# Altium footprint library V1.PcbLib: 20 footprints (part 1 of 2)
Each footprint in its own frame and in the unit in brackets; x right, y up, seen from the top. Pads: shape width x height; smd on the part's side, far side on the other; paste and mask are expansions set on the pad; w line width, h text height; cw(c..) or ccw(c..) is an arc to the next point about the centre after c.
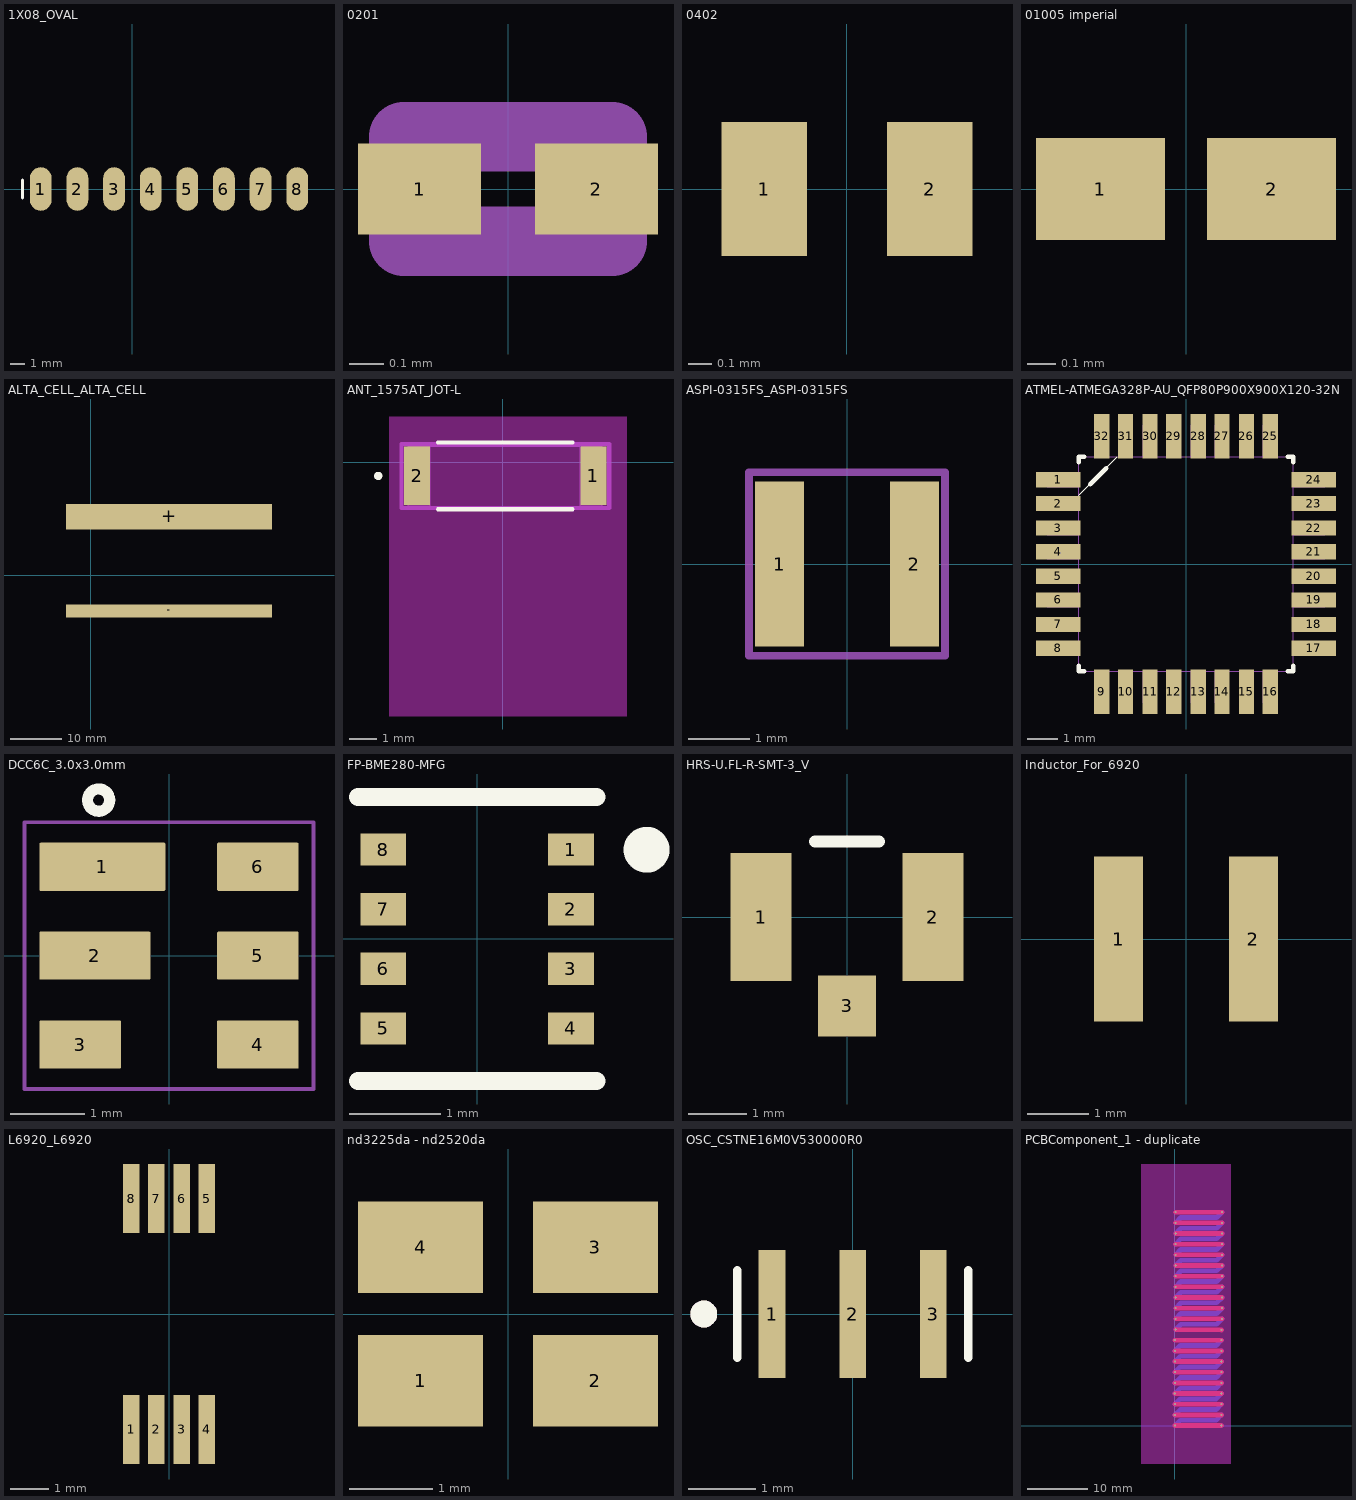
[diagram p0: the footprints below, top view; thin cyan lines are the x and y axes]

## 1X08_OVAL [mm]
height 1.25
pads (8):
  oval 1.508x3.016 smd: 1(-6.35,0) 2(-3.81,0) 3(-1.27,0) 4(1.27,0) 5(3.81,0) 6(6.35,0) 7(8.89,0) 8(11.43,0)
Top Overlay:
  lines w0.203: -7.62,-0.635 -7.62,0.635

## 0201 [mm]
height 1.25
pads (2):
  rect 0.354x0.263 smd paste+0 mask+0: 1(-0.254,0) 2(0.254,0)
Top 3D Body:
  lines w0.2: -0.3,-0.15 -0.3,0.15 0.3,0.15 0.3,-0.15 -0.3,-0.15
3D body "Res_Panasonic_Electronic_Components_ERJ-1GNF4872C_eec.STEP": height 0.25, standoff 0, extent -0.531,-0.265 0.531,0.265

## 0402 [mm]
height 1.25
pads (2):
  rect 0.365x0.572 smd paste+0 mask+0: 1(-0.354,0) 2(0.354,0)

## 01005 imperial [mm]
height 1.25
pads (2):
  rect 0.456x0.361 smd paste+0 mask+0: 1(-0.303,0) 2(0.303,0)

## ALTA_CELL_ALTA_CELL [mm]
height 1.25
pads (2):
  rect 40x5 smd: +(15.24,11.364)
  rect 40x2.5 smd: -(15.24,-6.986)

## ANT_1575AT_JOT-L [mm]
height 1.25
pads (2):
  rect 0.963x2.16 smd paste+0 mask+0: 1(3.363,-0.5) 2(-3.163,-0.5)
Top Overlay:
  circle w0.152: c-4.6,-0.5 r0.076
  lines w0.152: -2.385,-1.732 2.585,-1.732 ; -2.385,0.732 2.585,0.732
Keep-Out Layer:
  region: 4.6,-9.398 4.6,1.7 -4.2,1.7 -4.2,-9.398
Mechanical 13:
  circle w0: c3.236,-0.5 r0.076
  lines w0.025: -3.494,-1.605 -3.494,0.605 ; -3.494,-1.605 -2.681,-1.605 -2.681,0.605 -3.494,0.605 ; -3.494,-1.605 -3.494,0.605 ; -3.494,0.605 3.694,0.605 ; 3.694,-1.605 2.881,-1.605 2.881,0.605 3.694,0.605 ; 3.694,-1.605 3.694,0.605 ; 3.694,-1.605 3.694,0.605
Mechanical 15:
  lines w0.152: -3.746,-1.681 3.946,-1.681 3.946,0.681 -3.746,0.681 -3.746,-1.681

## ASPI-0315FS_ASPI-0315FS [mil]
pads (2):
  rect 31.5x106.3 smd: 1(-43.31,0) 2(43.31,0)
Mechanical 7:
  lines w5: -62.99,-59.06 -62.99,59.06 62.99,59.06 62.99,-59.06 -62.99,-59.06

## ATMEL-ATMEGA328P-AU_QFP80P900X900X120-32N [mil]
height 49.21
pads (32):
  rect 58x20 smd: 1(-167,110) 2(-167,79) 3(-167,47) 4(-167,16) 5(-167,-16) 6(-167,-47) 7(-167,-79) 8(-167,-110) 17(167,-110) 18(167,-79) 19(167,-47) 20(167,-16) 21(167,16) 22(167,47) 23(167,79) 24(167,110)
  rect 20x58 smd: 9(-110,-167) 10(-79,-167) 11(-47,-167) 12(-16,-167) 13(16,-167) 14(47,-167) 15(79,-167) 16(110,-167) 25(110,167) 26(79,167) 27(47,167) 28(16,167) 29(-16,167) 30(-47,167) 31(-79,167) 32(-110,167)
Top Overlay:
  lines w0: -140,90 -90,140
  lines w6: -140,-133 -140,-140 -133,-140 ; -140,133 -140,140 -133,140 ; -125,104 -104,125 ; 133,-140 140,-140 140,-133 ; 133,140 140,140 140,133
Top Courtyard:
  lines w0: -182,-119 -182,-101 -140,-101 -140,-119 -182,-119 ; -182,-88 -182,-70 -140,-70 -140,-88 -182,-88 ; -182,-56 -182,-38 -140,-38 -140,-56 -182,-56 ; -182,-25 -182,-7 -140,-7 -140,-25 -182,-25 ; -182,7 -182,25 -140,25 -140,7 -182,7 ; -182,38 -182,56 -140,56 -140,38 -182,38 ; -182,70 -182,88 -140,88 -140,70 -182,70 ; -182,101 -182,119 -140,119 -140,101 -182,101 ; -140,-140 140,-140 140,140 -140,140 -140,-140 ; -119,-182 -119,-140 -101,-140 -101,-182 -119,-182 ; -119,140 -101,140 -101,182 -119,182 -119,140 ; -88,-182 -88,-140 -70,-140 -70,-182 -88,-182 ; -88,140 -70,140 -70,182 -88,182 -88,140 ; -56,-182 -56,-140 -38,-140 -38,-182 -56,-182 ; -56,140 -38,140 -38,182 -56,182 -56,140 ; -25,-182 -25,-140 -7,-140 -7,-182 -25,-182 ; -25,140 -7,140 -7,182 -25,182 -25,140 ; 7,-182 7,-140 25,-140 25,-182 7,-182 ; 7,140 25,140 25,182 7,182 7,140 ; 38,-182 38,-140 56,-140 56,-182 38,-182 ; 38,140 56,140 56,182 38,182 38,140 ; 70,-182 70,-140 88,-140 88,-182 70,-182 ; 70,140 88,140 88,182 70,182 70,140 ; 101,-182 101,-140 119,-140 119,-182 101,-182 ; 101,140 119,140 119,182 101,182 101,140 ; 140,-119 140,-101 182,-101 182,-119 140,-119 ; 140,-88 140,-70 182,-70 182,-88 140,-88 ; 140,-56 140,-38 182,-38 182,-56 140,-56 ; 140,-25 140,-7 182,-7 182,-25 140,-25 ; 140,7 140,25 182,25 182,7 140,7 ; 140,38 140,56 182,56 182,38 140,38 ; 140,70 140,88 182,88 182,70 140,70 ; 140,101 140,119 182,119 182,101 140,101

## DCC6C_3.0x3.0mm [mm] "DCC6C footprint, 3.0x3.0mm"
height 1.1
pads (6):
  rrect5% 1.7x0.65 smd mask+0.05: 1(-0.9,1.2)
  rrect5% 1.5x0.65 smd mask+0.05: 2(-1,0)
  rrect5% 1.1x0.65 smd mask+0.05: 3(-1.2,-1.2) 4(1.2,-1.2) 5(1.2,0) 6(1.2,1.2)
Top Overlay:
  circle w0.15: c-0.95,2.1 r0.15
Mechanical 15:
  lines w0.05: -1.95,-1.8 1.95,-1.8 1.95,1.8 -1.95,1.8 -1.95,-1.8
3D body: height 1, standoff 0, extent -1.5,-1.5 1.5,1.5

## FP-BME280-MFG [mm]
pads (8):
  rect 0.5x0.35 smd paste+0 mask+0: 1(1.025,0.975) 2(1.025,0.325) 3(1.025,-0.325) 4(1.025,-0.975) 5(-1.025,-0.975) 6(-1.025,-0.325) 7(-1.025,0.325) 8(-1.025,0.975)
Top Overlay:
  circle w0.25: c1.85,0.975 r0.125
  lines w0.2: -1.3,-1.55 1.3,-1.55 ; -1.3,1.55 1.3,1.55

## HRS-U.FL-R-SMT-3_V [mm] "SMT, 3-Leads, Body 2.6x2.6mm"
height 1.25
pads (3):
  rect 1.05x2.2 smd: 1(-1.475,0) 2(1.475,0)
  rect 1x1.05 smd: 3(0,-1.525)
Top Overlay:
  lines w0.2: -0.55,1.3 0.55,1.3

## Inductor_For_6920 [mil] "Inductor for L6920"
pads (2):
  rect 31.5x106.3 smd: 1(-43.31,0) 2(43.31,0)

## L6920_L6920 [mm]
pads (8):
  rect 0.42x1.78 smd: 1(-0.975,-2.97) 2(-0.325,-2.97) 3(0.325,-2.97) 4(0.975,-2.97) 5(0.975,2.97) 6(0.325,2.97) 7(-0.325,2.97) 8(-0.975,2.97)

## nd3225da - nd2520da [mm] "Crystal SMD 3.2x2.5mm compatible with 2.5x2.0mm"
height 0.8
pads (4):
  rect 1.5x1.1 smd mask+0.05: 1(-1.05,-0.8) 2(1.05,-0.8) 3(1.05,0.8) 4(-1.05,0.8)
3D body: height 1, standoff 0, extent -1.6,-1.25 1.6,1.25

## OSC_CSTNE16M0V530000R0 [mm]
pads (3):
  rect 0.4x1.9 smd: 1(-1.2,0) 2(0,0) 3(1.2,0)
Top Overlay:
  circle w0.2: c-2.22,0 r0.1
  lines w0.127: -1.72,-0.65 -1.72,0.65 ; 1.72,-0.65 1.72,0.65
Mechanical 13:
  circle w0.2: c-2.22,0 r0.1

## PCBComponent_1 - duplicate [mm]
via 7.747,0 diameter 0.35 hole 0.28
via 7.747,1.778 diameter 0.35 hole 0.28
via 7.747,3.556 diameter 0.35 hole 0.28
via 7.747,5.334 diameter 0.35 hole 0.28
via 7.747,7.112 diameter 0.35 hole 0.28
via 7.747,8.89 diameter 0.35 hole 0.28
via 7.747,10.668 diameter 0.35 hole 0.28
via 7.747,12.446 diameter 0.35 hole 0.28
via 7.747,14.224 diameter 0.35 hole 0.28
via -0.022,14.224 diameter 0.35 hole 0.28
via 7.777,15.941 diameter 0.35 hole 0.28
via 7.874,17.78 diameter 0.35 hole 0.28
via 7.874,19.558 diameter 0.35 hole 0.28
via 7.874,21.336 diameter 0.35 hole 0.28
via 7.874,23.114 diameter 0.35 hole 0.28
via 7.874,24.892 diameter 0.35 hole 0.28
via 7.874,26.67 diameter 0.35 hole 0.28
via 7.874,28.448 diameter 0.35 hole 0.28
via 7.874,30.226 diameter 0.35 hole 0.28
via 7.874,32.004 diameter 0.35 hole 0.28
via 7.874,33.782 diameter 0.35 hole 0.28
via 0.105,33.782 diameter 0.35 hole 0.28
via 7.874,35.56 diameter 0.35 hole 0.28
via 0.127,35.56 diameter 0.35 hole 0.28
via 0,0 diameter 0.35 hole 0.28
via -0.022,1.778 diameter 0.35 hole 0.28
via 0,3.556 diameter 0.35 hole 0.28
via -0.022,5.334 diameter 0.35 hole 0.28
via 0,7.112 diameter 0.35 hole 0.28
via 0,8.89 diameter 0.35 hole 0.28
via 0,10.668 diameter 0.35 hole 0.28
via 0,12.446 diameter 0.35 hole 0.28
via 0.127,16.002 diameter 0.35 hole 0.28
via 0.127,17.78 diameter 0.35 hole 0.28
via 0.127,19.558 diameter 0.35 hole 0.28
via 0.127,21.336 diameter 0.35 hole 0.28
via 0.127,23.114 diameter 0.35 hole 0.28
via 0.127,24.892 diameter 0.35 hole 0.28
via 0.127,26.67 diameter 0.35 hole 0.28
via 0.127,28.448 diameter 0.35 hole 0.28
via 0.105,30.226 diameter 0.35 hole 0.28
via 0.127,32.004 diameter 0.35 hole 0.28
Top Layer:
  lines w0.8: -0.022,1.778 7.747,1.778 ; -0.022,5.334 7.747,5.334 ; -0.022,14.224 7.747,14.224 ; 0,0 7.747,0 ; 0,3.556 7.747,3.556 ; 0,7.112 7.747,7.112 ; 0,8.89 7.747,8.89 ; 0,10.668 7.747,10.668 ; 0,12.446 7.747,12.446 ; 0.105,30.226 7.874,30.226 ; 0.105,33.782 7.874,33.782 ; 0.105,35.56 7.874,35.56 ; 0.127,16.002 7.777,15.941 ; 0.127,17.78 7.874,17.78 ; 0.127,19.558 7.874,19.558 ; 0.127,21.336 7.874,21.336 ; 0.127,23.114 7.874,23.114 ; 0.127,24.892 7.874,24.892 ; 0.127,26.67 7.874,26.67 ; 0.127,32.004 7.874,32.004 ; 1.397,28.448 0.127,28.448 ; 7.874,28.448 0.127,28.448 ; 0.127,28.448 0.127,28.448
Bottom Layer:
  lines w0.254: -0.011,14.224 0,14.224
  lines w0.8: 0,0 0.889,0.889 6.858,0.889 7.747,1.778 ; 0,1.778 0.889,2.667 6.858,2.667 7.747,3.556 ; 0,3.556 0.889,4.445 6.858,4.445 7.747,5.334 ; 0,5.334 0.889,6.223 6.858,6.223 7.747,7.112 ; 0,7.112 0.889,8.001 6.858,8.001 7.747,8.89 ; 0,8.89 0.889,9.779 6.858,9.779 7.747,10.668 ; 0,10.668 0.439,11.107 ; 0,12.446 0.889,13.335 6.858,13.335 7.747,14.224 ; 0.116,30.226 1.005,31.115 6.985,31.115 7.874,32.004 ; 0.127,16.002 1.016,16.891 6.985,16.891 7.874,17.78 ; 0.127,17.78 1.016,18.669 6.985,18.669 7.874,19.558 ; 0.127,19.558 1.016,20.447 6.985,20.447 7.874,21.336 ; 0.127,21.336 1.016,22.225 6.985,22.225 7.874,23.114 ; 0.127,23.114 1.016,24.003 6.985,24.003 7.874,24.892 ; 0.127,28.448 1.016,29.337 6.985,29.337 7.874,30.226 ; 0.127,32.004 0.61,32.487 ; 0.127,33.782 1.016,34.671 6.985,34.671 7.874,35.56 ; 0.376,0.386 0.386,0.386 ; 7.747,12.446 6.858,11.557 0.889,11.557 0.439,11.107 ; 7.874,26.67 6.985,25.781 1.016,25.781 ; 7.874,28.448 6.985,27.559 1.016,27.559 ; 7.874,33.782 6.985,32.893 1.016,32.893 0.61,32.487 ; 0.439,11.107 0.439,11.107 ; 0.61,32.487 0.61,32.487 ; 1.016,25.781 0.127,24.892 1.016,25.781 ; 1.016,27.559 0.127,26.67 1.016,27.559
Top Solder:
  lines w0.85: 3.149,14.224 4.699,14.224 ; 3.152,15.942 4.702,15.942
Keep-Out Layer:
  rectangle: -5.653,-6.412 9.347,43.588